# EAGLE library part PIC18F67J94-I/MR (library johnmamish-microchip)
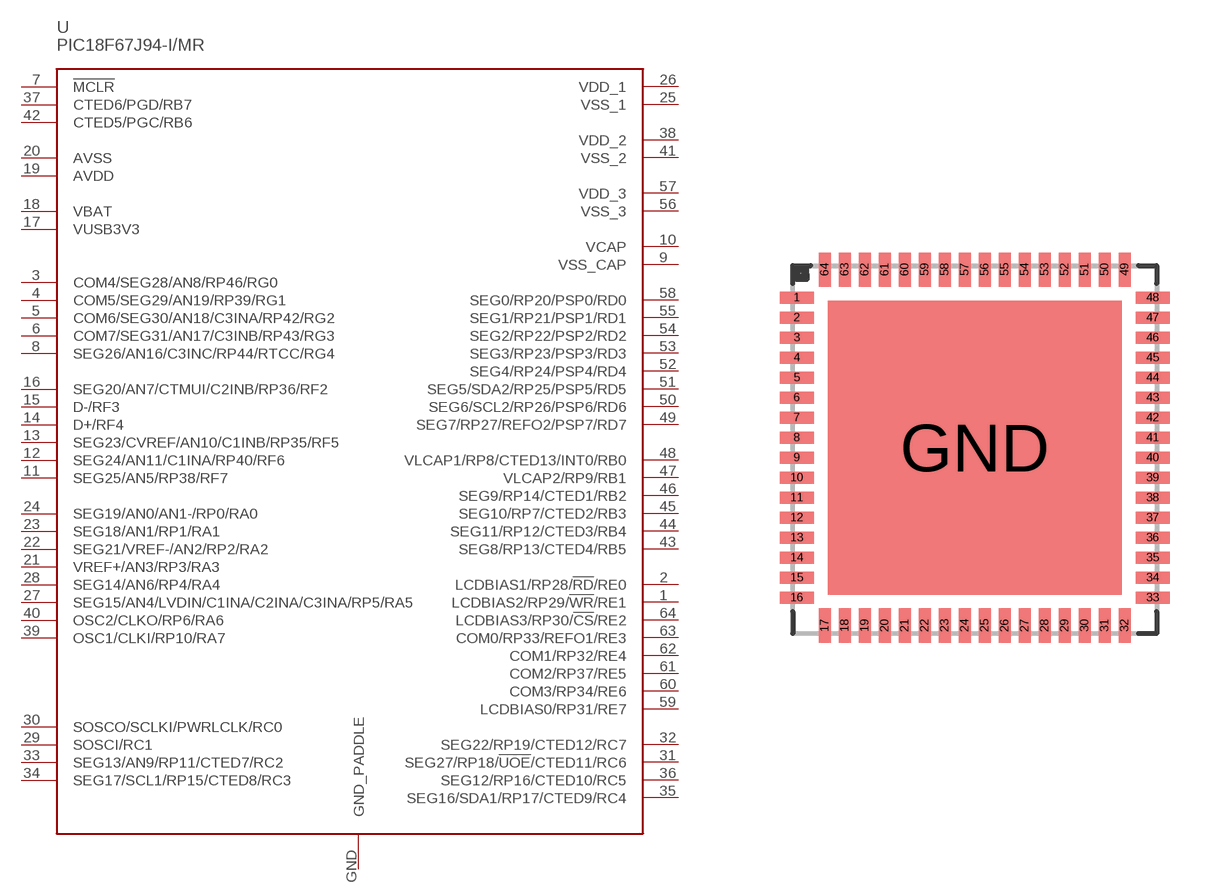
[diagram p5: symbol with the pads of QFN64-MICROCHIP; footprint QFN64-MICROCHIP]

Designator prefix -

## PIC18F67J94-I/MR  [QFN64-MICROCHIP]
1  LCDBIAS2/RP29/!WR!/RE1
2  LCDBIAS1/RP28/!RD!/RE0
3  COM4/SEG28/AN8/RP46/RG0
4  COM5/SEG29/AN19/RP39/RG1
5  COM6/SEG30/AN18/C3INA/RP42/RG2
6  COM7/SEG31/AN17/C3INB/RP43/RG3
7  !MCLR!
8  SEG26/AN16/C3INC/RP44/RTCC/RG4
9  VSS_CAP
10  VCAP
11  SEG25/AN5/RP38/RF7
12  SEG24/AN11/C1INA/RP40/RF6
13  SEG23/CVREF/AN10/C1INB/RP35/RF5
14  D+/RF4
15  D-/RF3
16  SEG20/AN7/CTMUI/C2INB/RP36/RF2
17  VUSB3V3
18  VBAT
19  AVDD
20  AVSS
21  VREF+/AN3/RP3/RA3
22  SEG21/VREF-/AN2/RP2/RA2
23  SEG18/AN1/RP1/RA1
24  SEG19/AN0/AN1-/RP0/RA0
25  VSS_1
26  VDD_1
27  SEG15/AN4/LVDIN/C1INA/C2INA/C3INA/RP5/RA5
28  SEG14/AN6/RP4/RA4
29  SOSCI/RC1
30  SOSCO/SCLKI/PWRLCLK/RC0
31  SEG27/RP18/!UOE!/CTED11/RC6
32  SEG22/RP19/CTED12/RC7
33  SEG13/AN9/RP11/CTED7/RC2
34  SEG17/SCL1/RP15/CTED8/RC3
35  SEG16/SDA1/RP17/CTED9/RC4
36  SEG12/RP16/CTED10/RC5
37  CTED6/PGD/RB7
38  VDD_2
39  OSC1/CLKI/RP10/RA7
40  OSC2/CLKO/RP6/RA6
41  VSS_2
42  CTED5/PGC/RB6
43  SEG8/RP13/CTED4/RB5
44  SEG11/RP12/CTED3/RB4
45  SEG10/RP7/CTED2/RB3
46  SEG9/RP14/CTED1/RB2
47  VLCAP2/RP9/RB1
48  VLCAP1/RP8/CTED13/INT0/RB0
49  SEG7/RP27/REFO2/PSP7/RD7
50  SEG6/SCL2/RP26/PSP6/RD6
51  SEG5/SDA2/RP25/PSP5/RD5
52  SEG4/RP24/PSP4/RD4
53  SEG3/RP23/PSP3/RD3
54  SEG2/RP22/PSP2/RD2
55  SEG1/RP21/PSP1/RD1
56  VSS_3
57  VDD_3
58  SEG0/RP20/PSP0/RD0
59  LCDBIAS0/RP31/RE7
60  COM3/RP34/RE6
61  COM2/RP37/RE5
62  COM1/RP32/RE4
63  COM0/RP33/REFO1/RE3
64  LCDBIAS3/RP30/!CS!/RE2
GND  GND_PADDLE

## Footprint QFN64-MICROCHIP (pad centres in mm)
smd 0.85 x 0.3: 1 0,0; 2 0,-0.5; 3 0,-1; 4 0,-1.5; 5 0,-2; 6 0,-2.5; 7 0,-3; 8 0,-3.5; 9 0,-4; 10 0,-4.5; 11 0,-5; 12 0,-5.5; 13 0,-6; 14 0,-6.5; 15 0,-7; 16 0,-7.5; 33 8.9,-7.5; 34 8.9,-7; 35 8.9,-6.5; 36 8.9,-6; 37 8.9,-5.5; 38 8.9,-5; 39 8.9,-4.5; 40 8.9,-4; 41 8.9,-3.5; 42 8.9,-3; 43 8.9,-2.5; 44 8.9,-2; 45 8.9,-1.5; 46 8.9,-1; 47 8.9,-0.5; 48 8.9,0
smd 0.3 x 0.85: 17 0.7,-8.2; 18 1.2,-8.2; 19 1.7,-8.2; 20 2.2,-8.2; 21 2.7,-8.2; 22 3.2,-8.2; 23 3.7,-8.2; 24 4.2,-8.2; 25 4.7,-8.2; 26 5.2,-8.2; 27 5.7,-8.2; 28 6.2,-8.2; 29 6.7,-8.2; 30 7.2,-8.2; 31 7.7,-8.2; 32 8.2,-8.2; 49 8.2,0.7; 50 7.7,0.7; 51 7.2,0.7; 52 6.7,0.7; 53 6.2,0.7; 54 5.7,0.7; 55 5.2,0.7; 56 4.7,0.7; 57 4.2,0.7; 58 3.7,0.7; 59 3.2,0.7; 60 2.7,0.7; 61 2.2,0.7; 62 1.7,0.7; 63 1.2,0.7; 64 0.7,0.7
smd 7.35 x 7.35: GND 4.45,-3.75